# EAGLE library part STM32_BLUE_PILL (library 00_custom)
Generic STM32F103 board: https://www.ebay.com/itm/STM32F103C8T6-ARM-STM32-Minimum-System-Development-Board-Module-For-Arduino/311156408508?hash=item48725e00bc:g:ngMAAOSwygJXhGtV
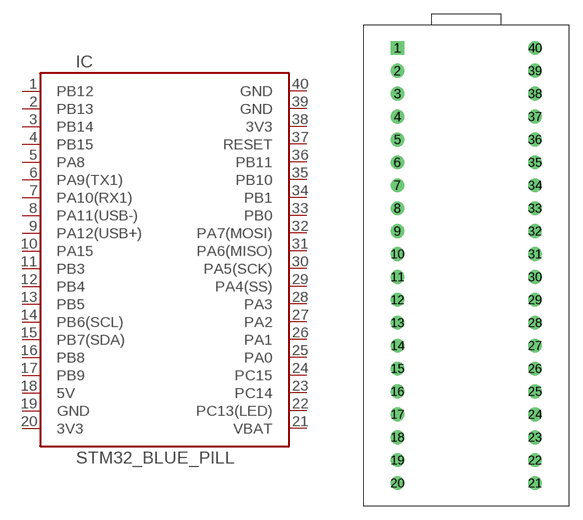
[diagram p12: symbol with the pads of STM32_BLUE_PILL; footprint STM32_BLUE_PILL]

Designator prefix IC

## STM32_BLUE_PILL  [STM32_BLUE_PILL]
1  PB12
2  PB13
3  PB14
4  PB15
5  PA8
6  PA9(TX1)
7  PA10(RX1)
8  PA11(USB-)
9  PA12(USB+)
10  PA15
11  PB3
12  PB4
13  PB5
14  PB6(SCL)
15  PB7(SDA)
16  PB8
17  PB9
18  5V
19  GND
20  3V3
21  VBAT
22  PC13(LED)
23  PC14
24  PC15
25  PA0
26  PA1
27  PA2
28  PA3
29  PA4(SS)
30  PA5(SCK)
31  PA6(MISO)
32  PA7(MOSI)
33  PB0
34  PB1
35  PB10
36  PB11
37  RESET
38  3V3
39  GND
40  GND

## Footprint STM32_BLUE_PILL (pad centres in mm)
drill 1.016 square: 1 -7.62,24.13
drill 1.016: 2 -7.62,21.59; 3 -7.62,19.05; 4 -7.62,16.51; 5 -7.62,13.97; 6 -7.62,11.43; 7 -7.62,8.89; 8 -7.62,6.35; 9 -7.62,3.81; 10 -7.62,1.27; 11 -7.62,-1.27; 12 -7.62,-3.81; 13 -7.62,-6.35; 14 -7.62,-8.89; 15 -7.62,-11.43; 16 -7.62,-13.97; 17 -7.62,-16.51; 18 -7.62,-19.05; 19 -7.62,-21.59; 20 -7.62,-24.13; 21 7.62,-24.13; 22 7.62,-21.59; 23 7.62,-19.05; 24 7.62,-16.51; 25 7.62,-13.97; 26 7.62,-11.43; 27 7.62,-8.89; 28 7.62,-6.35; 29 7.62,-3.81; 30 7.62,-1.27; 31 7.62,1.27; 32 7.62,3.81; 33 7.62,6.35; 34 7.62,8.89; 35 7.62,11.43; 36 7.62,13.97; 37 7.62,16.51; 38 7.62,19.05; 39 7.62,21.59; 40 7.62,24.13